# Altium schematic symbol library LH_Schlib.SchLib: 24 symbols
Pins are listed as number, name and electrical type; pins without a type are passive.

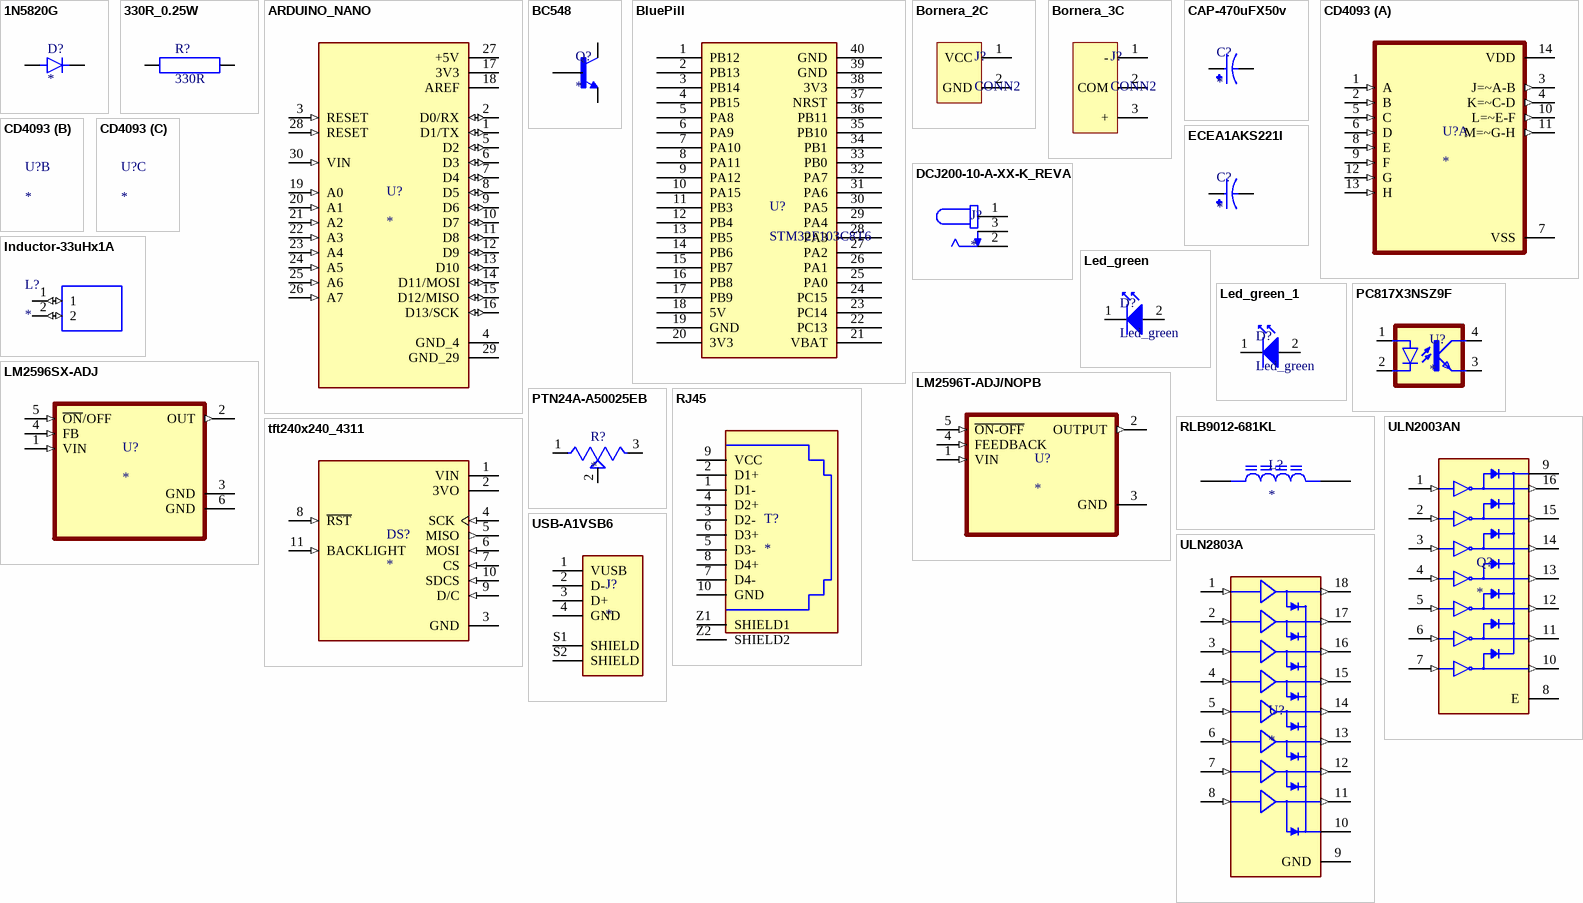
[diagram p0: symbols 1N5820G to USB-A1VSB6]

## 1N5820G
designator D?
ON Semi 1N5820G, Schottky Diode, 20V 3A, 2-Pin DO-201AD | ON Semiconductor 1N5820G; SnapEDA_Link: https://www.snapeda.com/parts/1N5820G/Onsemi/view-part/?ref=snap; Package: AXIAL LEAD-2 ON Semiconductor; Value: *; MF: ON Semiconductor; MP: 1N5820G; Check_prices: https://www.snapeda.com/parts/1N5820G/Onsemi/view-part/?ref=eda
footprint DIOAD1990W125L900D530
pins: A, C K

## 330R_0.25W
designator R?, comment 330R
footprint 330R_P8mm_0.25W
pins: 1, 2

## ARDUINO_NANO
designator U?
Small, complete, and breadboard-friendly board based on the ATmega328 (Arduino Nano 3.x); SnapEDA_Link: https://www.snapeda.com/parts/Arduino%20Nano/Arduino/view-part/?ref=snap; Package: Non-Standard Arduino; Value: *; MF: Arduino; MP: Arduino Nano; Check_prices: https://www.snapeda.com/parts/Arduino%20Nano/Arduino/view-part/?ref=eda
footprint MODULE_ARDUINO_NANO
pins: 1 D1/TX (io), 2 D0/RX (io), 3 RESET (in), 4 GND_4 (power), 5 D2 (io), 6 D3 (io), 7 D4 (io), 8 D5 (io), 9 D6 (io), 10 D7 (io), 11 D8 (io), 12 D9 (io), 13 D10 (io), 14 D11/MOSI (io), 15 D12/MISO (io), 16 D13/SCK (io), 17 3V3 (power), 18 AREF (power), 19 A0 (in), 20 A1 (in), 21 A2 (in), 22 A3 (in), 23 A4 (in), 24 A5 (in), 25 A6 (in), 26 A7 (in), 27 +5V (power), 28 RESET (in), 29 GND_29 (power), 30 VIN (in)

## BC548
designator Q?
Bipolar (BJT) Transistor NPN 30 V 100 mA 300MHz 625 mW Through Hole TO-92 (TO-226); MF: ON; MP: BC548; SnapEDA_Link: https://www.snapeda.com/parts/BC548/Onsemi/view-part/?ref=snap; Package: E-PKG AXIAL-LEADED-2 ON Semiconductor; Value: *; Check_prices: https://www.snapeda.com/parts/BC548/Onsemi/view-part/?ref=eda
footprint TO92127P520H533-3 (Footprint not found)
pins: 1 C, 2 B, 3 E

## BluePill
designator U?, comment STM32F103C8T6
Designed By @Alixahedi
footprint Stm32 BluePill
pins: 1 PB12, 2 PB13, 3 PB14, 4 PB15, 5 PA8, 6 PA9, 7 PA10, 8 PA11, 9 PA12, 10 PA15, 11 PB3, 12 PB4, 13 PB5, 14 PB6, 15 PB7, 16 PB8, 17 PB9, 18 5V, 19 GND, 20 3V3, 21 VBAT, 22 PC13, 23 PC14, 24 PC15, 25 PA0, 26 PA1, 27 PA2, 28 PA3, 29 PA4, 30 PA5, 31 PA6, 32 PA7, 33 PB0, 34 PB1, 35 PB10, 36 PB11, 37 NRST, 38 3V3, 39 GND, 40 GND

## Bornera_2C
designator J?, comment CONN2
footprint CONN2
pins: 1 VCC, 2 GND

## Bornera_3C
designator J?, comment CONN2
footprint CONN3
pins: 1 -, 2 COM, 3 +

## CAP-470uFX50v
designator C?
470ÂµF 50V Aluminum Electrolytic Capacitors Radial, Can 2000 Hrs @ 105Â°C; MP: EEUHD1H471; MF: Panasonic; Value: *; SnapEDA_Link: https://www.snapeda.com/parts/EEUHD1H471/Panasonic/view-part/5785983/?ref=snap; Availability: Not in stock; Package: RADIAL-2 Panasonic; Price: None; Check_prices: https://www.snapeda.com/parts/EEUHD1H471/Panasonic/view-part/5785983/?ref=eda
footprint CAPPRD500W60D1000H2000
pins: N, P

## CD4093
designator U?
CMOS Quad 2-Input NAND Schmitt Triggers 14-PDIP -55 to 125; MP: CD4093BEE4; MF: Texas Instruments; SnapEDA_Link: https://www.snapeda.com/parts/CD4093BEE4/Texas+Instruments/view-part/?ref=snap; Availability: Unavailable; Price: None; Check_prices: https://www.snapeda.com/parts/CD4093BEE4/Texas+Instruments/view-part/?ref=eda; Package: PDIP-14; Value: *
footprint DIP794W45P254L1969H508Q14 (Footprint not found)
part A pins: 1 A (in), 2 B (in), 3 J=~A-B (out), 4 K=~C-D (out), 5 C (in), 6 D (in), 7 VSS (power), 8 E (in), 9 F (in), 10 L=~E-F (out), 11 M=~G-H (out), 12 G (in), 13 H (in), 14 VDD (power)

## DCJ200-10-A-XX-K_REVA
designator J?
Power Barrel Connector Jack 2.05mm ID (0.081), 5.50mm OD (0.217) Through Hole, Right Angle; MF: Global Connector Technology; MP: DCJ200-10-A-K1-K; SnapEDA_Link: https://www.snapeda.com/parts/DCJ200-10-A-K1-K/Global+Connector+Technology/view-part/?ref=snap; Package: None; Value: *; Check_prices: https://www.snapeda.com/parts/DCJ200-10-A-K1-K/Global+Connector+Technology/view-part/?ref=eda
footprint GCT_DCJ200-10-A-XX-K_REVA
pins: 1, 2, 3

## ECEA1AKS221I
designator C?
CAP ALUM 220UF 20% 10V RADIAL; MF: Panasonic; MP: ECE-A1AKS221I; Check_prices: https://www.snapeda.com/parts/ECE-A1AKS221I/Panasonic/view-part/2339032/?ref=eda; Availability: In Stock; Value: *; Price: None; Purchase-URL: https://pricing.snapeda.com/search/part/ECE-A1AKS221I/?ref=eda; Package: RADIAL-2 Panasonic; SnapEDA_Link: https://www.snapeda.com/parts/ECE-A1AKS221I/Panasonic/view-part/2339032/?ref=snap
footprint CAPPRD250W45D800H500
footprint CAPPRD250W45D800H500
pins: N, P

## Inductor-33uHx1A
designator L?
10ÂµH Unshielded Wirewound Inductor 3A 45mOhm Max Radial, Vertical Cylinder; MP: RL622-100K-RC; MF: Bourns; Check_prices: https://www.snapeda.com/parts/RL622-100K-RC/Bourns/view-part/439516/?ref=eda; Value: *; Availability: Good; Price: None; Package: Radial Bourns - J.W. Miller; Purchase-URL: https://pricing.snapeda.com/search/part/RL622-100K-RC/?ref=eda; SnapEDA_Link: https://www.snapeda.com/parts/RL622-100K-RC/Bourns/view-part/439516/?ref=snap; ComponentLink1Description: New link; ComponentLink1URL: *
footprint RL622
pins: 1 (io), 2 (io)

## Led_green
designator D?
footprint Diode_5mm_green
footprint Diode_5mm_green - duplicate
pins: 1, 2

## Led_green_1
designator D?, comment Led_green
footprint Diode_5mm_green
footprint Diode_5mm_RED
pins: 1, 2

## LM2596SX-ADJ
designator U?
SIMPLE SWITCHERÂ® 4.5V to 40V, 3A Low Component Count Step-Down Regulator 5-DDPAK/TO-263 -40 to 125; MF: Texas Instruments; MP: LM2596SX-ADJ; SnapEDA_Link: https://www.snapeda.com/parts/LM2596SX-ADJ/Texas+Instruments/view-part/?ref=snap; Package: TO-263-5 Texas Instruments; Value: *; Check_prices: https://www.snapeda.com/parts/LM2596SX-ADJ/Texas+Instruments/view-part/?ref=eda
footprint VREG_LM2596SX-ADJ
pins: 1 VIN (in), 2 OUT (out), 3 GND (power), 4 FB (in), 5 ~{ON}/OFF (in), 6 GND (power)

## LM2596T-ADJ/NOPB
designator U?
SIMPLE SWITCHERÂ® 4.5V to 40V, 3A Low Component Count Step-Down Regulator; MF: Texas Instruments; MP: LM2596T-ADJ/NOPB; SnapEDA_Link: https://www.snapeda.com/parts/LM2596T-ADJ/NOPB/Texas+Instruments/view-part/?ref=snap; Package: TO-220-5 Texas Instruments; Value: *; Check_prices: https://www.snapeda.com/parts/LM2596T-ADJ/NOPB/Texas+Instruments/view-part/?ref=eda
footprint TO170P1016X470X2092-5
pins: 1 VIN (in), 2 OUTPUT (out), 3 GND (power), 4 FEEDBACK (in), 5 ~{ON-OFF} (in)

## PC817X3NSZ9F
designator U?
Optoisolator Transistor Output 5000Vrms 1 Channel 4-DIP; MF: Sharp Microelectronics; MP: PC817X3NSZ9F; SnapEDA_Link: https://www.snapeda.com/parts/PC817X3NSZ9F/Sharp+Microelectronics/view-part/?ref=snap; Package: DIP-4 Sharp Microelectronics; Value: *; Check_prices: https://www.snapeda.com/parts/PC817X3NSZ9F/Sharp+Microelectronics/view-part/?ref=eda
footprint DIL04
pins: 1 A, 2 C, 3 EMIT, 4 COL

## PTN24A-A50025EB
designator R?
24 mm, Horizontal, Linear, 500 KO, Through Hole, Slotted Shaft Rotary Potentiometer; MF: Same Sky; MP: PTN24A-A50025EB; SnapEDA_Link: https://www.snapeda.com/parts/PTN24A-A50025EB/Same+Sky/view-part/?ref=snap; Package: Package; Value: *; Check_prices: https://www.snapeda.com/parts/PTN24A-A50025EB/Same+Sky/view-part/?ref=eda
footprint TRIM_PTN24A-A50025EB
pins: 1, 2, 3

## RJ45
designator T?
EMI Gaskets, Sheets, Absorbers & Shielding Integrated RJ45 Transformer WE-RJ45LAN7498111001A; MF: WÃ¼rth Elektronik; SnapEDA_Link: https://www.snapeda.com/parts/7498111001A/W%25C3%25BCrth+Elektronik+Midcom/view-part/?ref=snap; Package: None; Value: *; MP: 7498111001A; Check_prices: https://www.snapeda.com/parts/7498111001A/W%25C3%25BCrth+Elektronik+Midcom/view-part/?ref=eda
footprint 7498111001A
pins: 1 D1-, 2 D1+, 3 D2-, 4 D2+, 5 D3-, 6 D3+, 7 D4-, 8 D4+, 9 VCC, 10 GND, Z1 SHIELD1, Z2 SHIELD2

## RLB9012-681KL
designator L?
MP: RLB9012-681KL; Availability: Unavailable; Price: None; Value: *; Package: None
footprint IND_RLB9012-681KL
pins: 1, 2

## tft240x240_4311
designator DS?
Graphic LCD Display Module Red, Green, Blue (RGB) TFT - Color, IPS (In-Plane Switching) SPI 2 (50.80mm) 320 x 240; MF: Adafruit Industries LLC; MP: 4311; SnapEDA_Link: https://www.snapeda.com/parts/4311/Adafruit+Industries/view-part/?ref=snap; Package: None; Value: *; Check_prices: https://www.snapeda.com/parts/4311/Adafruit+Industries/view-part/?ref=eda
footprint MODULE_4311
pins: 1 VIN (power), 2 3VO (power), 3 GND (power), 4 SCK (in), 5 MISO (out), 6 MOSI (in), 7 CS (in), 8 ~{RST} (in), 9 D/C (in), 10 SDCS (in), 11 BACKLIGHT (in)

## ULN2003AN
designator Q?
50-V, 7-ch darlington transistor array, -20C to 70C; MF: Texas Instruments; MP: ULN2003AN; SnapEDA_Link: https://www.snapeda.com/parts/ULN2003AN/Texas+Instruments/view-part/?ref=snap; Package: PDIP-16 Texas Instruments; Value: *; Check_prices: https://www.snapeda.com/parts/ULN2003AN/Texas+Instruments/view-part/?ref=eda
footprint DIP794W45P254L1969H508Q16
pins: 1 1B (in), 2 2B (in), 3 3B (in), 4 4B (in), 5 5B (in), 6 6B (in), 7 7B (in), 8 E (power), 9 COM, 10 7C (out), 11 6C (out), 12 5C (out), 13 4C (out), 14 3C (out), 15 2C (out), 16 1C (out)

## ULN2803A
designator U?
MP: ULN2803A; Package: None; Price: None; Value: *; Availability: Unavailable
footprint DIP850W46P254L2324H393Q18
pins: 1 IN_1 (in), 2 IN_2 (in), 3 IN_3 (in), 4 IN_4 (in), 5 IN_5 (in), 6 IN_6 (in), 7 IN_7 (in), 8 IN_8 (in), 9 GND (power), 10 COMMON, 11 OUT_8 (out), 12 OUT_7 (out), 13 OUT_6 (out), 14 OUT_5 (out), 15 OUT_4 (out), 16 OUT_3 (out), 17 OUT_2 (out), 18 OUT_1 (out)

## USB-A1VSB6
designator J?
USB-A (USB TYPE-A) - Receptacle Connector 4 Position Through Hole; MP: USB-A1VSB6; MF: On Shore; Check_prices: https://www.snapeda.com/parts/USB-A1VSB6/On+Shore+Technology+Inc./view-part/?ref=eda; Value: *; Availability: In Stock; Price: None; Package: None; SnapEDA_Link: https://www.snapeda.com/parts/USB-A1VSB6/On+Shore+Technology+Inc./view-part/?ref=snap; Purchase-URL: https://pricing.snapeda.com/search/part/USB-A1VSB6/?ref=eda
footprint ONSHORE_USB-A1VSB6
pins: 1 VUSB, 2 D-, 3 D+, 4 GND, S1 SHIELD, S2 SHIELD